# EAGLE library part MMDT3904 (library Labor)
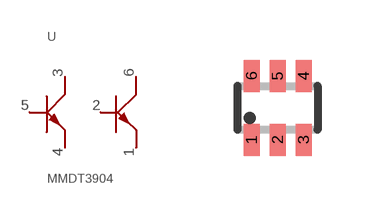
[diagram p15: symbol with the pads of SOT363_PHILIPS; footprint SOT363_PHILIPS]

Designator prefix -

## MMDT3904  [SOT363_PHILIPS]
1  E2
2  B2
3  C1
4  E1
5  B1
6  C2

## Footprint SOT363_PHILIPS (pad centres in mm)
Small Outline Transistor; 6 leads Philips Semiconductors, SOT363.pdf
smd 0.4 x 0.8: 1 -0.65,-0.8; 2 0,-0.8; 3 0.65,-0.8; 4 0.65,0.8; 5 0,0.8; 6 -0.65,0.8